# EAGLE library part SIL9 (library wolfi)
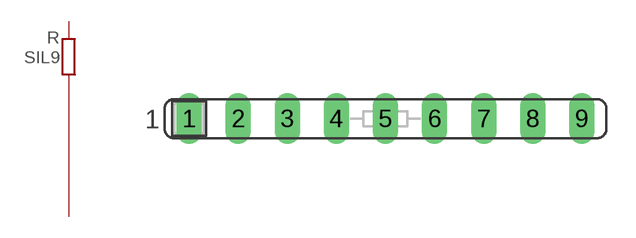
[diagram p2: symbol with the pads of SIL9; footprint SIL9]

Designator prefix R

## SIL9S  [SIL9]
1  C  pas
2  R0  pas
3  R1  pas
4  R2  pas
5  R3  pas
6  R4  pas
7  R5  pas
8  R6  pas
9  R7  pas

## Footprint SIL9 (pad centres in mm)
drill 0.813 long: 1 0,0; 2 2.54,0; 3 5.08,0; 4 7.62,0; 5 10.16,0; 6 12.7,0; 7 15.24,0; 8 17.78,0; 9 20.32,0